# Altium footprint library TCM1-63AX+.PcbLib: 1 footprints
Each footprint in its own frame and in the unit in brackets; x right, y up, seen from the top. Pads: shape width x height; smd on the part's side, far side on the other; paste and mask are expansions set on the pad; w line width, h text height; cw(c..) or ccw(c..) is an arc to the next point about the centre after c.
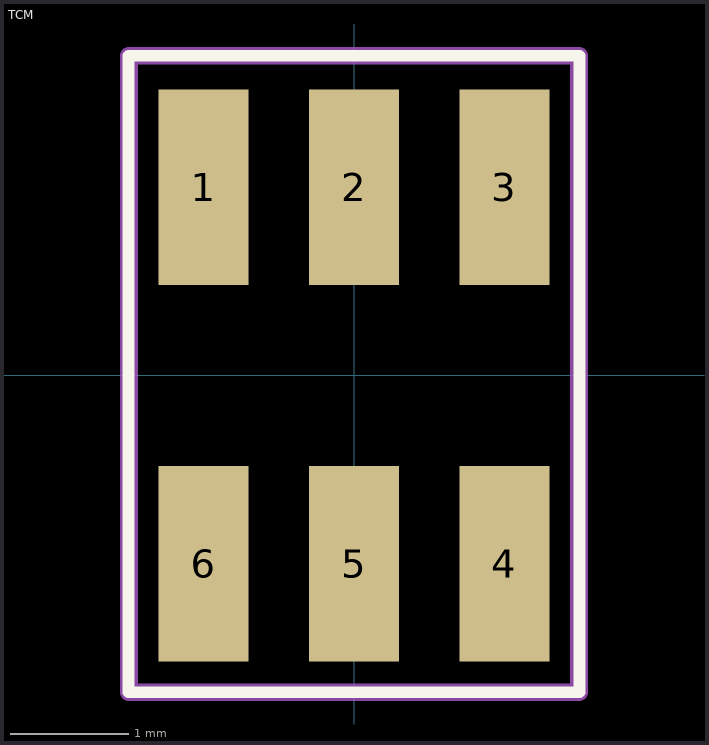
[diagram p0: the footprint, top view; thin cyan lines are the x and y axes]

## TCM [mm]
pads (6):
  rect 0.76x1.65 smd: 1(-1.27,1.59) 2(0,1.59) 3(1.27,1.59) 4(1.27,-1.59) 5(0,-1.59) 6(-1.27,-1.59)
Top Overlay:
  lines w0.1: -1.905,-2.675 -1.905,2.7 1.905,2.7 1.905,-2.675 -1.905,-2.675
Mechanical 29:
  lines w0.15: -1.9,-2.675 1.9,-2.675 1.9,2.7 -1.9,2.7 -1.9,-2.675
  text ".Designator" at -1.35,0.025 h1.02
3D body: height 4, standoff 0, extent -1.925,-2.025 1.9,2.025